# Altium footprint library 474110E.PcbLib: 1 footprints
Each footprint in its own frame and in the unit in brackets; x right, y up, seen from the top. Pads: shape width x height; smd on the part's side, far side on the other; paste and mask are expansions set on the pad; w line width, h text height; cw(c..) or ccw(c..) is an arc to the next point about the centre after c.
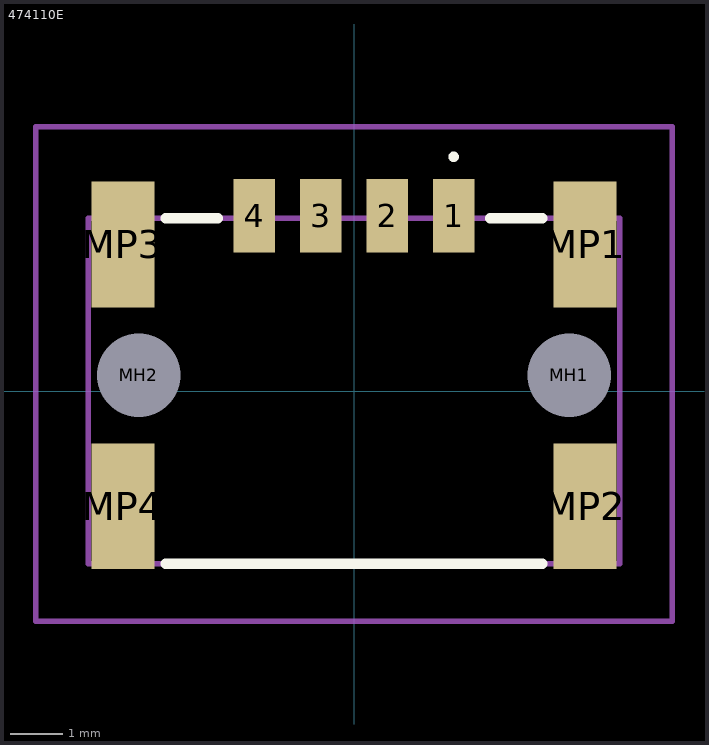
[diagram p0: the footprint, top view; thin cyan lines are the x and y axes]

## 474110E [mm]
pads (10):
  rect 0.8x1.4 smd: 1(1.905,3.35) 2(0.635,3.35) 3(-0.635,3.35) 4(-1.905,3.35)
  round 0.8 hole 1.6 unplated: MH1(4.115,0.3) MH2(-4.115,0.3)
  rect 1.2x2.4 smd: MP1(4.415,2.8) MP2(4.415,-2.2) MP3(-4.415,2.8) MP4(-4.415,-2.2)
Top Overlay:
  lines w0.1: 1.905,4.425 cw(c1.905,4.475) 1.905,4.525 ; 1.905,4.425 1.905,4.425 ; 1.905,4.425 ccw(c1.905,4.475) 1.905,4.525 ; 1.905,4.525 1.905,4.525
  lines w0.2: -3.6,-3.3 3.6,-3.3 ; -3.6,3.3 -2.6,3.3 ; 2.6,3.3 3.6,3.3
Mechanical 15:
  lines w0.1: -5.08,-3.3 5.08,-3.3 5.08,3.3 -5.08,3.3 -5.08,-3.3
Mechanical 20:
  lines w0.1: -6.08,-4.4 6.08,-4.4 6.08,5.05 -6.08,5.05 -6.08,-4.4